# Altium footprint library LMZ30602RKGT.PcbLib: 1 footprints
Each footprint in its own frame and in the unit in brackets; x right, y up, seen from the top. Pads: shape width x height; smd on the part's side, far side on the other; paste and mask are expansions set on the pad; w line width, h text height; cw(c..) or ccw(c..) is an arc to the next point about the centre after c.
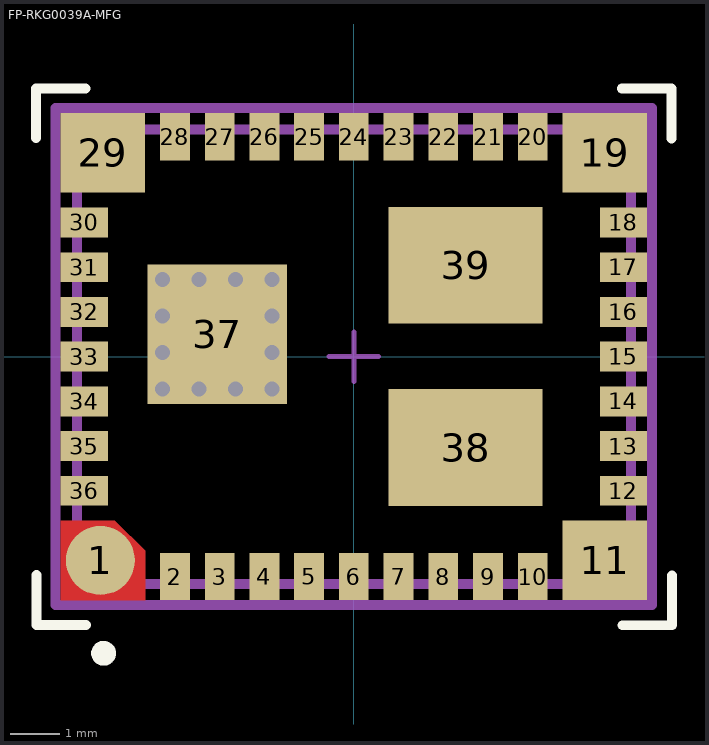
[diagram p0: the footprint, top view; thin cyan lines are the x and y axes]

## FP-RKG0039A-MFG [mm]
pads (39):
  round 1.387 smd paste-1000 mask+0: 1(-5.1,-4.1)
  rect 0.6x0.95 smd paste-1000 mask+0: 2(-3.6,-4.425) 3(-2.7,-4.425) 4(-1.8,-4.425) 5(-0.9,-4.425) 6(0,-4.425) 7(0.9,-4.425) 8(1.8,-4.425) 9(2.7,-4.425) 10(3.6,-4.425) 20(3.6,4.425) 21(2.7,4.425) 22(1.8,4.425) 23(0.9,4.425) 24(0,4.425) 25(-0.9,4.425) 26(-1.8,4.425) 27(-2.7,4.425) 28(-3.6,4.425)
  rect 1.7x1.6 smd paste-1000 mask+0: 11(5.05,-4.1) 19(5.05,4.1) 29(-5.05,4.1)
  rect 0.95x0.6 smd paste-1000 mask+0: 12(5.425,-2.7) 13(5.425,-1.8) 14(5.425,-0.9) 15(5.425,0) 16(5.425,0.9) 17(5.425,1.8) 18(5.425,2.7) 30(-5.425,2.7) 31(-5.425,1.8) 32(-5.425,0.9) 33(-5.425,0) 34(-5.425,-0.9) 35(-5.425,-1.8) 36(-5.425,-2.7)
  rect 2.8x2.8 smd paste-1000 mask-1000: 37(-2.75,0.45)
  rect 3.1x2.35 smd paste-1000 mask+0: 38(2.25,-1.83) 39(2.25,1.84)
via -2.383,-0.65 diameter 0.6 hole 0.3
via -3.117,-0.65 diameter 0.6 hole 0.3
via -2.383,1.55 diameter 0.6 hole 0.3
via -3.117,1.55 diameter 0.6 hole 0.3
via -1.65,0.817 diameter 0.6 hole 0.3
via -3.85,0.817 diameter 0.6 hole 0.3
via -1.65,0.083 diameter 0.6 hole 0.3
via -3.85,0.083 diameter 0.6 hole 0.3
via -1.65,-0.65 diameter 0.6 hole 0.3
via -3.85,-0.65 diameter 0.6 hole 0.3
via -1.65,1.55 diameter 0.6 hole 0.3
via -3.85,1.55 diameter 0.6 hole 0.3
Top Layer:
  region: -5.9,-4.9 -5.9,-3.3 -4.81,-3.3 -4.2,-3.91 -4.2,-4.9
Top Overlay:
  circle w0.25: c-5.035,-5.97 r0.125
  lines w0.2: -6.4,4.397 -6.4,5.397 -5.4,5.397 ; -6.389,-4.398 -6.389,-5.398 -5.389,-5.398 ; 5.392,5.394 6.392,5.394 6.392,4.394 ; 5.406,-5.405 6.406,-5.405 6.406,-4.405
Top Paste:
  rectangle: 2.4,0.8 3.65,1.69
  rectangle: 0.85,0.8 2.1,1.69
  rectangle: 2.4,1.99 3.65,2.88
  rectangle: 0.85,1.99 2.1,2.88
  rectangle: 2.4,-2.87 3.65,-1.98
  rectangle: 0.85,-2.87 2.1,-1.98
  rectangle: 2.4,-1.68 3.65,-0.79
  rectangle: 0.85,-1.68 2.1,-0.79
  rectangle: -2.6,-0.32 -1.98,0.3
  rectangle: -3.52,-0.32 -2.9,0.3
  rectangle: -2.6,0.6 -1.98,1.22
  rectangle: -3.52,0.6 -2.9,1.22
  rectangle: 4.314,-4.72 5.786,-3.48
  rectangle: 4.314,3.48 5.786,4.72
  rectangle: -5.786,3.48 -4.314,4.72
  region: -5.875,-2.425 -5.875,-2.975 -4.975,-2.975 -4.975,-2.425
  region: -5.875,-1.525 -5.875,-2.075 -4.975,-2.075 -4.975,-1.525
  region: -5.875,-0.625 -5.875,-1.175 -4.975,-1.175 -4.975,-0.625
  region: -5.875,0.275 -5.875,-0.275 -4.975,-0.275 -4.975,0.275
  region: -5.875,1.175 -5.875,0.625 -4.975,0.625 -4.975,1.175
  region: -5.875,2.075 -5.875,1.525 -4.975,1.525 -4.975,2.075
  region: -5.875,2.975 -5.875,2.425 -4.975,2.425 -4.975,2.975
  region: 4.975,-2.425 4.975,-2.975 5.875,-2.975 5.875,-2.425
  region: 4.975,-1.525 4.975,-2.075 5.875,-2.075 5.875,-1.525
  region: 4.975,-0.625 4.975,-1.175 5.875,-1.175 5.875,-0.625
  region: 4.975,0.275 4.975,-0.275 5.875,-0.275 5.875,0.275
  region: 4.975,1.175 4.975,0.625 5.875,0.625 5.875,1.175
  region: 4.975,2.075 4.975,1.525 5.875,1.525 5.875,2.075
  region: 4.975,2.975 4.975,2.425 5.875,2.425 5.875,2.975
  rectangle: -3.875,3.975 -3.325,4.875
  rectangle: -2.975,3.975 -2.425,4.875
  rectangle: -2.075,3.975 -1.525,4.875
  rectangle: -1.175,3.975 -0.625,4.875
  rectangle: -0.275,3.975 0.275,4.875
  rectangle: 0.625,3.975 1.175,4.875
  rectangle: 1.525,3.975 2.075,4.875
  rectangle: 2.425,3.975 2.975,4.875
  rectangle: 3.325,3.975 3.875,4.875
  rectangle: 3.325,-4.875 3.875,-3.975
  rectangle: 2.425,-4.875 2.975,-3.975
  rectangle: 1.525,-4.875 2.075,-3.975
  rectangle: 0.625,-4.875 1.175,-3.975
  rectangle: -0.275,-4.875 0.275,-3.975
  rectangle: -1.175,-4.875 -0.625,-3.975
  rectangle: -2.075,-4.875 -1.525,-3.975
  rectangle: -2.975,-4.875 -2.425,-3.975
  rectangle: -3.875,-4.875 -3.325,-3.975
  region: -5.786,-4.72 -5.786,-3.48 -4.904,-3.48 -4.314,-4.07 -4.314,-4.72
Top Solder:
  rectangle: -3.55,-0.35 -1.95,1.25
Top Assembly:
  lines w0.2: -6,-5 -6,5 6,5 6,-5 -6,-5
  text ".Designator" at 0,0.188 h1
Top 3D Body:
  lines w0.2: -5.575,-4.575 -5.575,4.575 5.575,4.575 5.575,-4.575 -5.575,-4.575
Top Courtyard:
  lines w0.2: -6,-5 -6,5 6,5 6,-5 -6,-5
Top Component Center:
  lines w0.1: -0.5,0 0.5,0 ; 0,-0.5 0,0.5
3D body "IC_TI_LMZ30602RKGT_eec.STEP": height 0.25, standoff 0, extent -6,-5 6,5